# EAGLE library part LTC4418IUF (library LTC4418IUF)
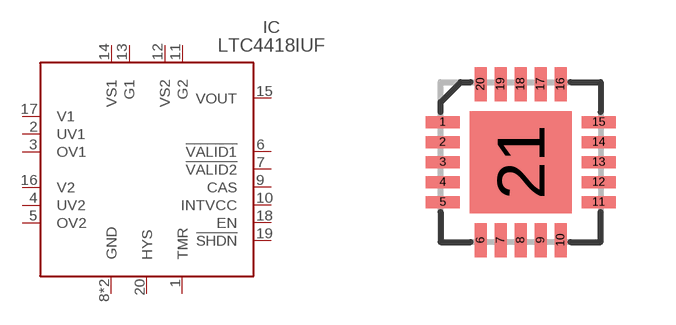
[diagram p0: symbol with the pads of LTC4418IUF; footprint LTC4418IUF]

Designator prefix IC

## LTC4418IUF  [LTC4418IUF]
1  TMR
2  UV1
3  OV1
4  UV2
5  OV2
6  !VALID1
7  !VALID2
8  GND
9  CAS
10  INTVCC
11  G2
12  VS2
13  G1
14  VS1
15  VOUT
16  V2
17  V1
18  EN
19  !SHDN
20  HYS
21  GND

## Footprint LTC4418IUF (pad centres in mm)
smd 0.85 x 0.3: 1 -1.95,1; 2 -1.95,0.5; 3 -1.95,0; 4 -1.95,-0.5; 5 -1.95,-1; 11 1.95,-1; 12 1.95,-0.5; 13 1.95,0; 14 1.95,0.5; 15 1.95,1
smd 0.3 x 0.85: 6 -1,-1.95; 7 -0.5,-1.95; 8 0,-1.95; 9 0.5,-1.95; 10 1,-1.95; 16 1,1.95; 17 0.5,1.95; 18 0,1.95; 19 -0.5,1.95; 20 -1,1.95
smd 2.55 x 2.55: 21 0,0